# Altium footprint library PcbLib1.PcbLib: 1 footprints
Each footprint in its own frame and in the unit in brackets; x right, y up, seen from the top. Pads: shape width x height; smd on the part's side, far side on the other; paste and mask are expansions set on the pad; w line width, h text height; cw(c..) or ccw(c..) is an arc to the next point about the centre after c.
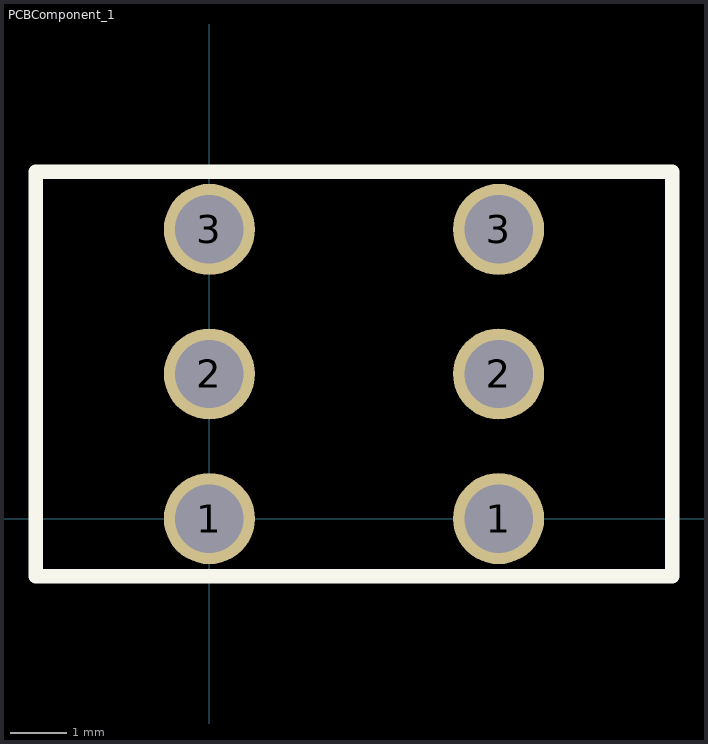
[diagram p0: the footprint, top view; thin cyan lines are the x and y axes]

## PCBComponent_1 [mm]
pads (6):
  round 1.6 hole 1.2: 1(0,0) 1(5.08,0) 2(0,2.54) 2(5.08,2.54) 3(0,5.08) 3(5.08,5.08)
Top Overlay:
  lines w0.254: -3.048,-1.016 8.128,-1.016 8.128,6.096 -3.048,6.096 -3.048,-1.016